# EAGLE library part 734-516 (library con-wago_3.81mm)
Serie 734, Federleiste mit geraden Einlötstiften / Series 734, Female connector with straight solder pins Polzahl / Pole No.: 16 Bemessungsspannung / Rated Voltage: 160 V Nennstrom / Nominal Current: 10 A Lötstiftlänge: / Solder Pin Length: 3.8 mm Farbe / Color: orange / orange Stand: 01.01.2012. Die jeweils aktuellen Daten zu diesem Artikel finden Sie in unserem Produktkatalog, den Sie unter www.wago.com einsehen können. As of: 01/01/2012. Please find the newest data for this article in our product catalogue, which can be viewed under www.wago.com.
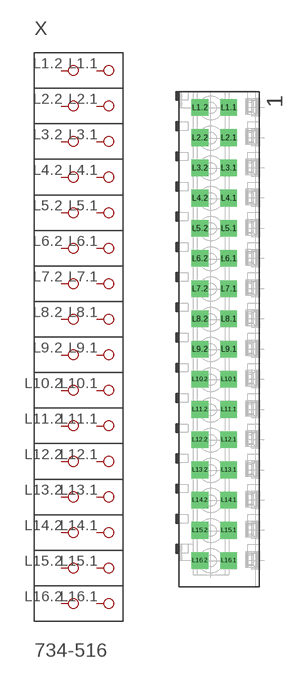
[diagram p46: symbol with the pads of P-734-516; footprint P-734-516]

Designator prefix X

## 734-516  [P-734-516]
L1.1  P1.1
L1.2  P1.2
L2.1  P2.1
L2.2  P2.2
L3.1  P3.1
L3.2  P3.2
L4.1  P4.1
L4.2  P4.2
L5.1  P5.1
L5.2  P5.2
L6.1  P6.1
L6.2  P6.2
L7.1  P7.1
L7.2  P7.2
L8.1  P8.1
L8.2  P8.2
L9.1  P9.1
L9.2  P9.2
L10.1  P10.1
L10.2  P10.2
L11.1  P11.1
L11.2  P11.2
L12.1  P12.1
L12.2  P12.2
L13.1  P13.1
L13.2  P13.2
L14.1  P14.1
L14.2  P14.2
L15.1  P15.1
L15.2  P15.2
L16.1  P16.1
L16.2  P16.2

## Footprint P-734-516 (pad centres in mm)
drill 1.4 square: L1.1 1.077,29.177; L1.2 -2.573,29.177; L2.1 1.077,25.367; L2.2 -2.573,25.367; L3.1 1.077,21.557; L3.2 -2.573,21.557; L4.1 1.077,17.747; L4.2 -2.573,17.747; L5.1 1.077,13.937; L5.2 -2.573,13.937; L6.1 1.077,10.127; L6.2 -2.573,10.127; L7.1 1.077,6.317; L7.2 -2.573,6.317; L8.1 1.077,2.507; L8.2 -2.573,2.507; L9.1 1.077,-1.303; L9.2 -2.573,-1.303; L10.1 1.077,-5.113; L10.2 -2.573,-5.113; L11.1 1.077,-8.923; L11.2 -2.573,-8.923; L12.1 1.077,-12.733; L12.2 -2.573,-12.733; L13.1 1.077,-16.543; L13.2 -2.573,-16.543; L14.1 1.077,-20.353; L14.2 -2.573,-20.353; L15.1 1.077,-24.163; L15.2 -2.573,-24.163; L16.1 1.077,-27.973; L16.2 -2.573,-27.973